# Altium schematic symbol library SRP1265A-150M.SchLib: 1 symbol
Pins are listed as number, name and electrical type; pins without a type are passive.

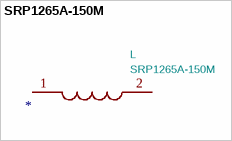
[diagram p0: symbol SRP1265A-150M]

## SRP1265A-150M
designator L  value SRP1265A-150M
Bourns SRP1265A Series Type 1265 Shielded Wire-wound SMD Inductor with a Carbonyl Powder Core, 15 uH +/-20% Wire-Wound; Allied_Number: 70377570; Footprint: INDPM135125X650N; Supplier: https://www.bourns.com/docs/Product-Datasheets/SRP1265A.pdf; Description_: Bourns SRP1265A Series Type 1265 Shielded Wire-wound SMD Inductor with a Carbonyl Powder Core, 15 uH +/-20% Wire-Wound; Height: 6.5; Manufacturer_Name: Bourns; Manufacturer_Part_Number: SRP1265A-150M; Mouser Part Number: 652-SRP1265A-150M; Mouser Price/Stock: https://www.mouser.com/Search/Refine.aspx?Keyword=652-SRP1265A-150M; RS Part Number: 8193497P; RS Price/Stock: http://uk.rs-online.com/web/p/products/8193497P; Allied Price/Stock: https://www.alliedelec.com/bourns-srp1265a-150m/70377570/
footprint INDPM135125X650N
pins: 1, 2